# Altium schematic symbol library JST_B6B.SchLib: 1 symbol
Pins are listed as number, name and electrical type; pins without a type are passive.

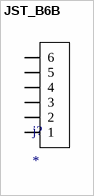
[diagram p0: symbol JST_B6B]

## JST_B6B
designator j?
footprint JST_B6B
pins: 1, 2, 3, 4, 5, 6